# Altium schematic symbol library STL.SchLib: 124 symbols (part 4 of 4)
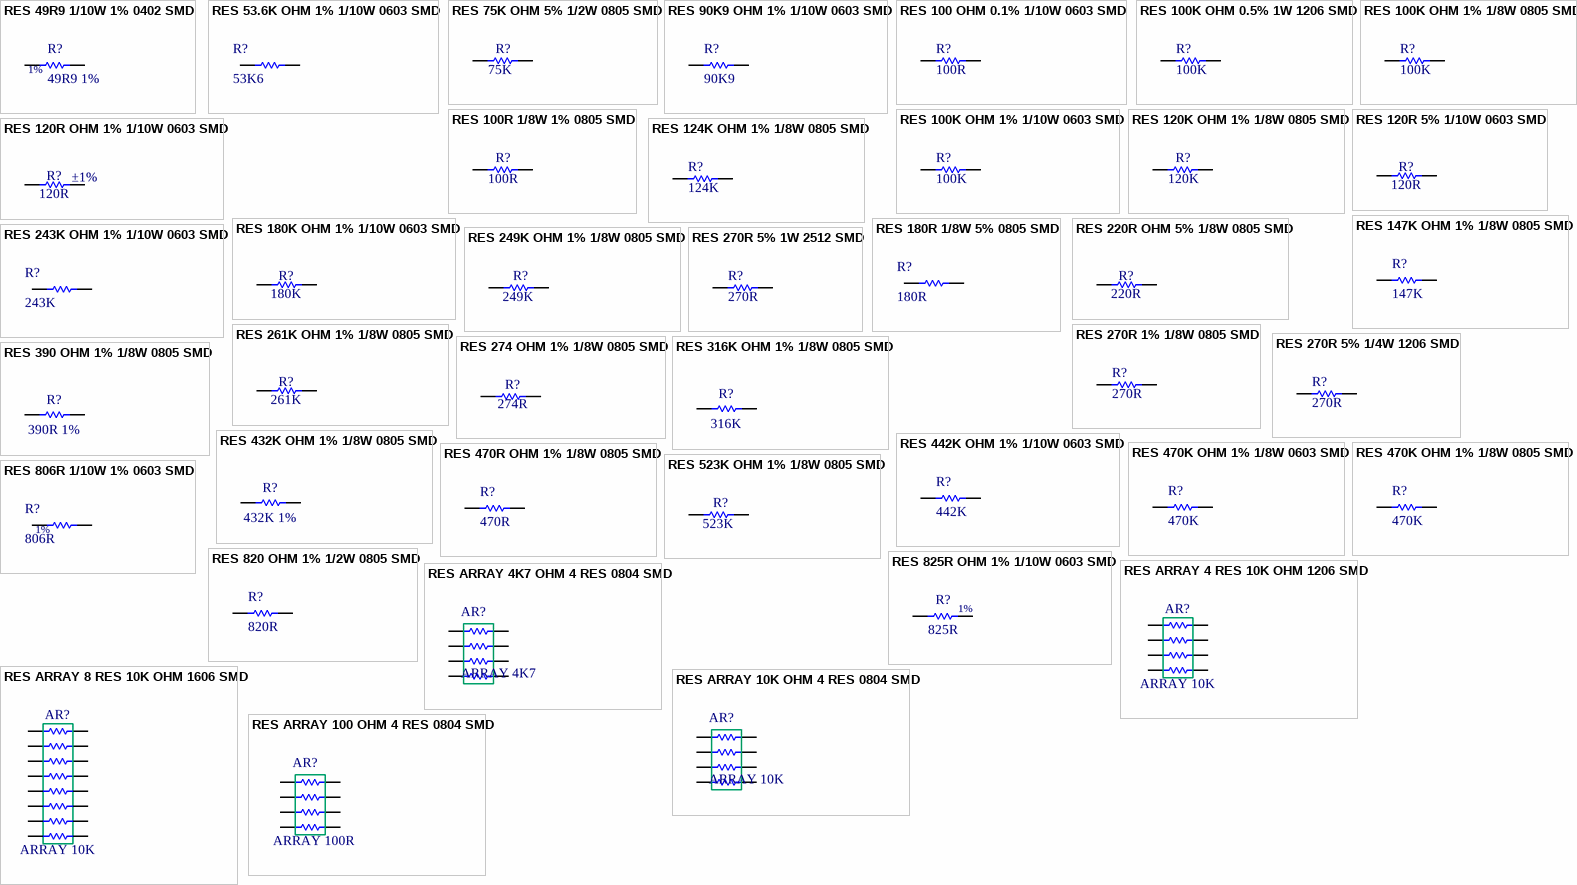
[diagram p6: symbols RES 49R9 1/10W 1% 0402 SMD to RES ARRAY 100 OHM 4 RES 0804 SMD]

## RES 316K OHM 1% 1/8W 0805 SMD
designator R?, comment 316K
RES SMD 316K OHM 1% 1/8W 0805; Manufacturer: Panasonic Electronic Components; Manufacturer Part Number: ERJ-6ENF3163V; Power (Watts): 0.125W, 1/8W; Temperature Coefficient: ±100ppm/°C; Supplier 1: Digi-Key; RoHS: RoHS Compliant; Category: Resistors; Stock 1: 97409; Pricing 1: 1=0.1, 50=0.022, 100=0.0162, 250=0.01236, 500=0.0099, 1000=0.00729 (USD); Packaging: Cut Tape (CT); Resistance (Ohms): 316k; Tolerance: ±1%; Composition: Thick Film; Features: Automotive AEC-Q200; Operating Temperature: -55°C ~ 155°C; Package / Case: 0805 (2012 Metric); Supplier Device Package: 0805; Size / Dimension: 0.079" L x 0.049" W (2.00mm x 1.25mm); Height: 0.028" (0.70mm); Number of Terminations: 2; ComponentLink1URL: http://industrial.panasonic.com/www-cgi/jvcr13pz.cgi?E+PZ+3+AOA0002+ERJ6ENF3163V+7+WW; ComponentLink1Description: http://industrial.panasonic.com/www-cgi/jvcr13pz.cgi?E+PZ+3+AOA0002+ERJ6ENF3163V+7+WW; Supplier Part Number 1: P316KCCT-ND
footprint CR2012-0805 (Chip Capacitor)
pins: 1, 2

## RES 390 OHM 1% 1/8W 0805 SMD
designator R?, comment 390R 1%
RES SMD 390 OHM 1% 1/8W 0805; Manufacturer: Uniroyal; Manufacturer Part Number: 0805W8F3900T5E; Resistance (Ohms): 390; Power (Watts): 0.125W, 1/8W; RoHS: RoHS Compliant; Category: Resistors; Packaging: Cut Tape (CT); Part Status: Active; Tolerance: ±1%; Package / Case: 0805 (2012 Metric); Supplier Device Package: 0805; Number of Terminations: 2; ComponentLink1URL: http://industrial.panasonic.com/www-cgi/jvcr13pz.cgi?E+PZ+3+AOA0002+ERJ6ENF3652V+7+WW; ComponentLink1Description: http://industrial.panasonic.com/www-cgi/jvcr13pz.cgi?E+PZ+3+AOA0002+ERJ6ENF3652V+7+WW; Supplier 1: LCSC; Supplier Part Number 1: C17655
footprint CR2012-0805 (Chip Capacitor)
pins: 1, 2

## RES 432K OHM 1% 1/8W 0805 SMD
designator R?, comment 432K 1%
RES SMD 432K OHM 1% 1/8W 0805; Manufacturer: Panasonic Electronic Components; Manufacturer Part Number: ERJ-6ENF4323V; Power (Watts): 0.125W, 1/8W; Temperature Coefficient: ±100ppm/°C; Supplier 1: Digi-Key; RoHS: RoHS Compliant; Category: Resistors; Stock 1: 41728; Pricing 1: 1=0.1, 50=0.022, 100=0.0162, 250=0.01236, 500=0.0099, 1000=0.00729 (USD); Packaging: Cut Tape (CT); Part Status: Active; Resistance (Ohms): 432k; Tolerance: ±1%; Composition: Thick Film; Features: Automotive AEC-Q200; Operating Temperature: -55°C ~ 155°C; Package / Case: 0805 (2012 Metric); Supplier Device Package: 0805; Size / Dimension: 0.079" L x 0.049" W (2.00mm x 1.25mm); Height: 0.028" (0.70mm); Number of Terminations: 2; ComponentLink1URL: http://industrial.panasonic.com/www-cgi/jvcr13pz.cgi?E+PZ+3+AOA0002+ERJ6ENF4323V+7+WW; ComponentLink1Description: http://industrial.panasonic.com/www-cgi/jvcr13pz.cgi?E+PZ+3+AOA0002+ERJ6ENF4323V+7+WW; Supplier Part Number 1: P432KCCT-ND
footprint CR2012-0805 (Chip Capacitor)
pins: 1, 2

## RES 442K OHM 1% 1/10W 0603 SMD
designator R?, comment 442K
RES SMD 442K OHM 1% 1/10W 0603; Manufacturer: Yageo; Manufacturer Part Number: RC0603FR-07442KL; Power (Watts): 0.1W, 1/10W; Temperature Coefficient: ±100ppm/°C; Supplier 1: Digi-Key; RoHS: RoHS Compliant; Category: Resistors; Stock 1: 27435; Pricing 1: 1=0.1, 10=0.014, 25=0.01, 100=0.0057, 250=0.00436, 500=0.00348, 1000=0.00257, 2500=0.00223 (USD); Packaging: Cut Tape (CT); Resistance (Ohms): 442k; Tolerance: ±1%; Composition: Thick Film; Features: Moisture Resistant; Operating Temperature: -55°C ~ 155°C; Package / Case: 0603 (1608 Metric); Supplier Device Package: 0603; Size / Dimension: 0.063" L x 0.031" W (1.60mm x 0.80mm); Height: 0.022" (0.55mm); Number of Terminations: 2; ComponentLink1URL: http://www.yageo.com/documents/recent/PYu-RC_Group_51_RoHS_L_04.pdf; ComponentLink1Description: http://www.yageo.com/documents/recent/PYu-RC_Group_51_RoHS_L_04.pdf; Supplier Part Number 1: 311-442KHRCT-ND
footprint CR1608-0603 (Chip Resistor; Body 1.6 x 0.8 mm (LxW typ))
pins: 1, 2

## RES 470K OHM 1% 1/8W 0603 SMD
designator R?, comment 470K
RES, THICK FILM, 470KOHM, 0.1W, 0603; Manufacturer: Panasonic; Manufacturer Part Number: ERA-6AEB474V; Resistance: 470kR; Power Rating: 125mW; Tolerance: 0.1%; Voltage Rating: 100V; Temperature Coefficient: 25ppm/°C; ComponentLink1URL: http://www.yageo.com/documents/recent/PYu-RC_Group_51_RoHS_L_7.pdf; ComponentLink1Description: http://www.yageo.com/documents/recent/PYu-RC_Group_51_RoHS_L_7.pdf; ComponentLink2URL: https://datasheet.ciiva.com/9189/aoa0000ce26-9189398.pdf?src-supplier=Avnet; ComponentLink2Description: https://datasheet.ciiva.com/9189/aoa0000ce26-9189398.pdf?src-supplier=Avnet; RoHS: Yes; Category: Chip SMD Resistors; Stock 1: 32083; Pricing 1: 1=0,36000, 10=0,30200, 100=0,11820, 1000=0,04948, 2500=0,04536 (USD); Mount: Surface Mount; Case/Package: 0805; Number of Pins: 2; Case Code (Metric): 2012; Case Code (Imperial): 0805; Contact Plating: Tin; Min Operating Temperature: -55°C; Max Operating Temperature: 155°C; Packaging: Tape and Reel; Package Quantity: 1; Composition: Thin Film,Metal Film; Number of Terminations: 2; Termination: SMD/SMT; Military Standard: Not; Max Power Dissipation: 125mW; Voltage Rating (DC): 100V; Features: Automotive AEC-Q200; Length: 2mm; Height: 0.5mm; Width: 1.25mm; Depth: 1.25mm; Radiation Hardening: No; REACH SVHC: No SVHC; Lead Free: Lead Free; ComponentLink3URL: https://datasheet.ciiva.com/11808/0900766b80eb1d8c-11808090.pdf?src-supplier=RSComponents; ComponentLink3Description: https://datasheet.ciiva.com/11808/0900766b80eb1d8c-11808090.pdf?src-supplier=RSComponents; ComponentLink4URL: https://datasheet.ciiva.com/26335/458319-da-01-en-widerstand-0805-era-26335741.pdf?src-supplier=Conrad; ComponentLink4Description: https://datasheet.ciiva.com/26335/458319-da-01-en-widerstand-0805-era-26335741.pdf?src-supplier=Conrad; ComponentLink5URL: https://datasheet.ciiva.com/5875/485442-5875541.pdf?src-supplier=Farnell; ComponentLink5Description: https://datasheet.ciiva.com/5875/485442-5875541.pdf?src-supplier=Farnell; ComponentLink6URL: https://datasheet.ciiva.com/46444/485442-46444805.pdf?src-supplier=Element14; ComponentLink6Description: https://datasheet.ciiva.com/46444/485442-46444805.pdf?src-supplier=Element14; ComponentLink7URL: https://datasheet.ciiva.com/30177/54aoa0000ce26-30177306.pdf?src-supplier=Onlinecomponents.com; ComponentLink7Description: https://datasheet.ciiva.com/30177/54aoa0000ce26-30177306.pdf?src-supplier=Onlinecomponents.com; ComponentLink8URL: https://datasheet.ciiva.com/17205/aoa0000ce26-17205647.pdf?src-supplier=Avnet+Europe; ComponentLink8Description: https://datasheet.ciiva.com/17205/aoa0000ce26-17205647.pdf?src-supplier=Avnet+Europe; ComponentLink9URL: https://datasheet.ciiva.com/28676/485442-28676607.pdf?src-supplier=Element14; ComponentLink9Description: https://datasheet.ciiva.com/28676/485442-28676607.pdf?src-supplier=Element14; Stock 2: 147809; Pricing 2: 1=0,10000, 10=0,04900, 100=0,01980, 1000=0,00890, 2500=0,00773 (USD); ComponentLink10URL: https://datasheet.ciiva.com/7836/aoa0000ce2-7836505.pdf?src-supplier=Element14; ComponentLink10Description: https://datasheet.ciiva.com/7836/aoa0000ce2-7836505.pdf?src-supplier=Element14; ComponentLink11URL: https://datasheet.ciiva.com/17205/aoa0000ce2-17205660.pdf?src-supplier=Avnet+Europe; ComponentLink11Description: https://datasheet.ciiva.com/17205/aoa0000ce2-17205660.pdf?src-supplier=Avnet+Europe; ComponentLink12URL: https://datasheet.ciiva.com/9181/aoa0000ce2-9181725.pdf?src-supplier=Avnet; ComponentLink12Description: https://datasheet.ciiva.com/9181/aoa0000ce2-9181725.pdf?src-supplier=Avnet; ComponentLink13URL: https://datasheet.ciiva.com/16759/70260748-16759934.pdf?src-supplier=Allied+Electronics; ComponentLink13Description: https://datasheet.ciiva.com/16759/70260748-16759934.pdf?src-supplier=Allied+Electronics; ComponentLink14URL: https://datasheet.ciiva.com/9117/aoa0000ce2-9117093.pdf?src-supplier=Avnet; ComponentLink14Description: https://datasheet.ciiva.com/9117/aoa0000ce2-9117093.pdf?src-supplier=Avnet; ComponentLink15URL: https://datasheet.ciiva.com/16514/aoa0000ce2-16514074.pdf?src-supplier=Avnet+Asia; ComponentLink15Description: https://datasheet.ciiva.com/16514/aoa0000ce2-16514074.pdf?src-supplier=Avnet+Asia; ComponentLink16URL: https://datasheet.ciiva.com/16786/70260748-16786907.pdf?src-supplier=Allied+Electronics; ComponentLink16Description: https://datasheet.ciiva.com/16786/70260748-16786907.pdf?src-supplier=Allied+Electronics; ComponentLink17URL: https://datasheet.ciiva.com/22687/1678782-22687437.pdf?src-supplier=Element14; ComponentLink17Description: https://datasheet.ciiva.com/22687/1678782-22687437.pdf?src-supplier=Element14; ComponentLink18URL: https://datasheet.ciiva.com/46444/1678782-46444813.pdf?src-supplier=Element14; ComponentLink18Description: https://datasheet.ciiva.com/46444/1678782-46444813.pdf?src-supplier=Element14; ComponentLink19URL: https://datasheet.ciiva.com/46444/1678782-46444814.pdf?src-supplier=Element14; ComponentLink19Description: https://datasheet.ciiva.com/46444/1678782-46444814.pdf?src-supplier=Element14; Supplier 1: Digi-Key; Supplier Part Number 1: P470KHCT-ND
footprint CC1608-0603 (Chip Capacitor; Body 1.6 x 0.8 mm (LxW typ))
pins: 1, 2

## RES 470K OHM 1% 1/8W 0805 SMD
designator R?, comment 470K
RES SMD 470K OHM 1%, 0.1% 1/8W 0805; Manufacturer: Panasonic; Manufacturer Part Number: ERA-6AEB474V; Resistance: 470kR; Power Rating: 125mW; Voltage Rating: 100V; Temperature Coefficient: 25ppm/°C; ComponentLink1URL: http://www.yageo.com/documents/recent/PYu-RC_Group_51_RoHS_L_7.pdf; ComponentLink1Description: http://www.yageo.com/documents/recent/PYu-RC_Group_51_RoHS_L_7.pdf; ComponentLink2URL: https://datasheet.ciiva.com/9189/aoa0000ce26-9189398.pdf?src-supplier=Avnet; ComponentLink2Description: https://datasheet.ciiva.com/9189/aoa0000ce26-9189398.pdf?src-supplier=Avnet; RoHS: Yes; Category: Chip SMD Resistors; Stock 1: 32083; Pricing 1: 1=0,36000, 10=0,30200, 100=0,11820, 1000=0,04948, 2500=0,04536 (USD); Mount: Surface Mount; Case/Package: 0805; Number of Pins: 2; Case Code (Metric): 2012; Case Code (Imperial): 0805; Contact Plating: Tin; Min Operating Temperature: -55°C; Max Operating Temperature: 155°C; Tolerance: 0.1%; Packaging: Tape and Reel; Package Quantity: 1; Composition: Thin Film,Metal Film; Number of Terminations: 2; Termination: SMD/SMT; Military Standard: Not; Max Power Dissipation: 125mW; Voltage Rating (DC): 100V; Features: Automotive AEC-Q200; Length: 2mm; Height: 0.5mm; Width: 1.25mm; Depth: 1.25mm; Radiation Hardening: No; REACH SVHC: No SVHC; Lead Free: Lead Free; ComponentLink3URL: https://datasheet.ciiva.com/11808/0900766b80eb1d8c-11808090.pdf?src-supplier=RSComponents; ComponentLink3Description: https://datasheet.ciiva.com/11808/0900766b80eb1d8c-11808090.pdf?src-supplier=RSComponents; ComponentLink4URL: https://datasheet.ciiva.com/26335/458319-da-01-en-widerstand-0805-era-26335741.pdf?src-supplier=Conrad; ComponentLink4Description: https://datasheet.ciiva.com/26335/458319-da-01-en-widerstand-0805-era-26335741.pdf?src-supplier=Conrad; ComponentLink5URL: https://datasheet.ciiva.com/5875/485442-5875541.pdf?src-supplier=Farnell; ComponentLink5Description: https://datasheet.ciiva.com/5875/485442-5875541.pdf?src-supplier=Farnell; ComponentLink6URL: https://datasheet.ciiva.com/46444/485442-46444805.pdf?src-supplier=Element14; ComponentLink6Description: https://datasheet.ciiva.com/46444/485442-46444805.pdf?src-supplier=Element14; ComponentLink7URL: https://datasheet.ciiva.com/30177/54aoa0000ce26-30177306.pdf?src-supplier=Onlinecomponents.com; ComponentLink7Description: https://datasheet.ciiva.com/30177/54aoa0000ce26-30177306.pdf?src-supplier=Onlinecomponents.com; ComponentLink8URL: https://datasheet.ciiva.com/17205/aoa0000ce26-17205647.pdf?src-supplier=Avnet+Europe; ComponentLink8Description: https://datasheet.ciiva.com/17205/aoa0000ce26-17205647.pdf?src-supplier=Avnet+Europe; ComponentLink9URL: https://datasheet.ciiva.com/28676/485442-28676607.pdf?src-supplier=Element14; ComponentLink9Description: https://datasheet.ciiva.com/28676/485442-28676607.pdf?src-supplier=Element14; Supplier 1: Digi-Key; Supplier 2: LCSC; Supplier Part Number 2: C844627; Supplier Part Number 1: P470KDACT-ND
footprint CR2012-0805 (Chip Capacitor)
pins: 1, 2

## RES 470R OHM 1% 1/8W 0805 SMD
designator R?, comment 470R
RES SMD 470 OHM 1% 1/8W 0805; Manufacturer: Uniroyal; Manufacturer Part Number: 0805W8F4700T5E; Temperature Coefficient: 200ppm/°C; Voltage Rating (DC): 150V; Power Rating: 500mW; ComponentLink1URL: http://www.yageo.com/documents/recent/PYu-RC_Group_51_RoHS_L_7.pdf; ComponentLink1Description: http://www.yageo.com/documents/recent/PYu-RC_Group_51_RoHS_L_7.pdf; ComponentLink2URL: https://datasheet.ciiva.com/48531/aoa0000ce4-48531226.pdf?src-supplier=Avnet; ComponentLink2Description: https://datasheet.ciiva.com/48531/aoa0000ce4-48531226.pdf?src-supplier=Avnet; Supplier 1: Digi-Key; RoHS: Yes; Category: Chip SMD Resistors; Stock 1: 11464; Pricing 1: 1=0,54000, 10=0,41200, 100=0,17310, 1000=0,09552, 2500=0,08955 (USD); Case/Package: 0805; Case Code (Metric): 2012; Case Code (Imperial): 0805; Contact Plating: Tin; Min Operating Temperature: -55°C; Max Operating Temperature: 155°C; Tolerance: 1%; Resistance: 470R; Packaging: Cut Tape; Composition: Thick Film; Voltage Rating: 150V; Termination: Flat; Number of Terminations: 2; Max Power Dissipation: 500mW; Features: Automotive AEC-Q200; Length: 0.079inch; Height: 0.03inch; Width: 0.049inch; Depth: 1.25mm; REACH SVHC: No SVHC; ComponentLink3URL: https://datasheet.ciiva.com/7830/1790600-7830869.pdf?src-supplier=Element14; ComponentLink3Description: https://datasheet.ciiva.com/7830/1790600-7830869.pdf?src-supplier=Element14; ComponentLink4URL: https://datasheet.ciiva.com/48531/aoa0000ce4-48531222.pdf?src-supplier=Avnet; ComponentLink4Description: https://datasheet.ciiva.com/48531/aoa0000ce4-48531222.pdf?src-supplier=Avnet; ComponentLink5URL: https://datasheet.ciiva.com/48536/erjp-series-eng-tds-48536302.pdf?src-supplier=Distrelec; ComponentLink5Description: https://datasheet.ciiva.com/48536/erjp-series-eng-tds-48536302.pdf?src-supplier=Distrelec; ComponentLink6URL: https://datasheet.ciiva.com/6138/1790600-6138383.pdf?src-supplier=Farnell; ComponentLink6Description: https://datasheet.ciiva.com/6138/1790600-6138383.pdf?src-supplier=Farnell; Supplier Part Number 1: P16881CT-ND; Supplier 2: LCSC; Supplier Part Number 2: C17710
footprint CR1608-0603 (Chip Resistor; Body 1.6 x 0.8 mm (LxW typ))
pins: 1, 2

## RES 523K OHM 1% 1/8W 0805 SMD
designator R?, comment 523K
RES SMD 523K OHM 1% 1/8W 0805; Manufacturer: Yageo; Manufacturer Part Number: RC0805FR-07523KL; Voltage Rating: 150V; Resistance: 523kR; Power Rating: 125mW; Temperature Coefficient: 100ppm/°C; Supplier 1: Digi-Key; RoHS: Yes; Category: Chip SMD Resistors; Stock 1: 70000; Pricing 1: 1=0,10000, 10=0,04000, 100=0,01630, 1000=0,00731, 2500=0,00635 (USD); Case/Package: 0805; Case Code (Imperial): 0805; Case Code (Metric): 2012; Contact Plating: Tin,Matte; Min Operating Temperature: -55°C; Max Operating Temperature: 155°C; Composition: Thick Film; Tolerance: 1%; Packaging: Tape and Reel; Termination: SMD/SMT; Military Standard: Not; Voltage Rating (DC): 150V; Length: 2mm; Height: 0.5mm; Width: 1.25mm; Depth: 1.25mm; Radiation Hardening: No; Lead Free: Lead Free; ComponentLink1URL: https://datasheet.ciiva.com/17419/rc0805-17419919.pdf?src-supplier=Future+Electronics; ComponentLink1Description: https://datasheet.ciiva.com/17419/rc0805-17419919.pdf?src-supplier=Future+Electronics; Supplier Part Number 1: 311-523KCRCT-ND
footprint CR2012-0805 (Chip Capacitor)
pins: 1, 2

## RES 806R 1/10W 1% 0603 SMD
designator R?, comment 806R
RES SMD 806 OHM 1% 1/10W 0603; Manufacturer: Yageo; Part#: RC0603FR-07806RL; eVendor: Digi-Key; eVendorPrice: 0,10; eVendor#: 311-806HRCT-ND; MSRP: 0,00223; Datasheet: http://www.yageo.com.tw/exep/pages/download/literatures/PYu-R_INT-thick_7.pdf; MOQ: 2500
footprint CR1608-0603 (Chip Resistor; Body 1.6 x 0.8 mm (LxW typ))
pins: 1, 2
text: 1%

## RES 820 OHM 1% 1/2W 0805 SMD
designator R?, comment 820R
RES SMD 820 OHM 1% 1/2W 0805; Manufacturer: Panasonic; Manufacturer Part Number: ERJP6WF8200V; Power Rating: 500mW; Voltage Rating: 150V; Temperature Coefficient: 200ppm/°C; ComponentLink1URL: http://www.yageo.com/documents/recent/PYu-RC_Group_51_RoHS_L_7.pdf; ComponentLink1Description: http://www.yageo.com/documents/recent/PYu-RC_Group_51_RoHS_L_7.pdf; ComponentLink2URL: https://datasheet.ciiva.com/48531/aoa0000ce4-48531226.pdf?src-supplier=Avnet; ComponentLink2Description: https://datasheet.ciiva.com/48531/aoa0000ce4-48531226.pdf?src-supplier=Avnet; ComponentLink3URL: https://datasheet.ciiva.com/7830/1790600-7830869.pdf?src-supplier=Element14; ComponentLink3Description: https://datasheet.ciiva.com/7830/1790600-7830869.pdf?src-supplier=Element14; ComponentLink4URL: https://datasheet.ciiva.com/48531/aoa0000ce4-48531222.pdf?src-supplier=Avnet; ComponentLink4Description: https://datasheet.ciiva.com/48531/aoa0000ce4-48531222.pdf?src-supplier=Avnet; ComponentLink5URL: https://datasheet.ciiva.com/48536/erjp-series-eng-tds-48536302.pdf?src-supplier=Distrelec; ComponentLink5Description: https://datasheet.ciiva.com/48536/erjp-series-eng-tds-48536302.pdf?src-supplier=Distrelec; ComponentLink6URL: https://datasheet.ciiva.com/6138/1790600-6138383.pdf?src-supplier=Farnell; ComponentLink6Description: https://datasheet.ciiva.com/6138/1790600-6138383.pdf?src-supplier=Farnell; Supplier 1: Arrow; RoHS: Yes; Category: Chip SMD Resistors; Stock 1: 2072; Pricing 1: 1=0,51300, 10=0,27930, 25=0,27650, 100=0,14350, 250=0,14190, 500=0,14060, 1000=0,08550 (USD); Case/Package: 0805; Case Code (Metric): 2012; Case Code (Imperial): 0805; Contact Plating: Tin; Min Operating Temperature: -55°C; Max Operating Temperature: 155°C; Tolerance: 1%; Composition: Thick Film; Resistance: 820R; Packaging: Cut Tape; Voltage Rating (DC): 150V; Termination: Flat; Number of Terminations: 2; Max Power Dissipation: 500mW; Features: Automotive AEC-Q200; Length: 0.079inch; Height: 0.03inch; Width: 0.049inch; Depth: 1.25mm; REACH SVHC: No SVHC; ComponentLink7URL: https://datasheet.ciiva.com/48531/aoa0000ce4-48531125.pdf?src-supplier=Avnet; ComponentLink7Description: https://datasheet.ciiva.com/48531/aoa0000ce4-48531125.pdf?src-supplier=Avnet; ComponentLink8URL: https://datasheet.ciiva.com/6137/1790600-6137853.pdf?src-supplier=Farnell; ComponentLink8Description: https://datasheet.ciiva.com/6137/1790600-6137853.pdf?src-supplier=Farnell; Supplier Part Number 1: ERJP6WF8200V
footprint CR1608-0603 (Chip Resistor; Body 1.6 x 0.8 mm (LxW typ))
pins: 1, 2

## RES 825R OHM 1% 1/10W 0603 SMD
designator R?, comment 825R
RES SMD 825 OHM 1% 1/10W 0603; Manufacturer: Yageo; Part#: RC0603FR-07825RL; eVendor: Digi-Key; eVendorPrice: 0,10; eVendor#: 311-825HRCT-ND; MSRP: 0,00223; Datasheet: http://www.yageo.com/NewPortal/yageodocoutput?fileName=/pdf/R-Chip/PYu-RC_Group_51_RoHS_L_3.pdf; MOQ: 2500
footprint CR1608-0603 (Chip Resistor; Body 1.6 x 0.8 mm (LxW typ))
pins: 1, 2
text: 1%

## RES ARRAY 4 RES 10K OHM 1206 SMD
designator AR?, comment ARRAY 10K
RES ARRAY 4 RES 10K OHM 1206; Manufacturer: Panasonic Electronic Components; Manufacturer Part Number: EXB-38V103JV; Circuit Type: Isolated; Tolerance: ±5%; Number of Resistors: 4; Power Per Element: 62.5mW; Temperature Coefficient: ±200ppm/°C; Supplier 1: Digi-Key; RoHS: RoHS Compliant; Category: Resistors; Stock 1: 318916; Pricing 1: 1=0.1, 10=0.051, 25=0.0368, 50=0.0282, 100=0.0208, 250=0.01584, 500=0.01268, 1000=0.00933 (USD); Packaging: Cut Tape (CT); Part Status: Active; Resistance (Ohms): 10k; Number of Pins: 8; Operating Temperature: -55°C ~ 125°C; Applications: Automotive AEC-Q200; Mounting Type: Surface Mount; Package / Case: 1206 (3216 Metric), Convex, Long Side Terminals; Supplier Device Package: 1206; Size / Dimension: 0.126" L x 0.063" W (3.20mm x 1.60mm); Height - Seated (Max): 0.024" (0.60mm); ComponentLink1URL: https://industrial.panasonic.com/cdbs/www-data/pdf/AOC0000/AOC0000CE4.pdf; ComponentLink1Description: https://industrial.panasonic.com/cdbs/www-data/pdf/AOC0000/AOC0000CE4.pdf; Supplier Part Number 1: Y9103CT-ND
footprint Array_4Res-1206
pins: 1, 2, 3, 4, 5, 6, 7, 8

## RES ARRAY 4K7 OHM 4 RES 0804 SMD
designator AR?, comment ARRAY 4K7
RES ARRAY 4.7K OHM 4 RES 0804; Part#: YC124-JR-074K7L; Manufacturer: Yageo; eVendor: Digi-Key; eVendorPrice: 0,10; MSRP: 0,00999; eVendor#: YC124J-4.7KCT-ND; Observação: --; MOQ: 5000; Datasheet: http://www.yageo.com/documents/recent/PYu-YC_TC124_51_RoHS_L_(3).pdf
footprint Array_4Res-0804
pins: 1, 2, 3, 4, 5, 6, 7, 8

## RES ARRAY 8 RES 10K OHM 1606 SMD
designator AR?, comment ARRAY 10K
RES ARRAY 8 RES 10K OHM 1606; Manufacturer: Rohm Semiconductor; Manufacturer Part Number: MNR18ERAPJ103; Circuit Type: Isolated; Tolerance: ±5%; Number of Resistors: 8; Power Per Element: 62.5mW; Temperature Coefficient: ±250ppm/°C; Supplier 1: Digi-Key; RoHS: RoHS Compliant; Category: Resistors; Stock 1: 10849; Pricing 1: 1=0.11, 10=0.1, 25=0.0692, 50=0.054, 100=0.0385, 250=0.03004, 500=0.02388, 1000=0.01694 (USD); Packaging: Cut Tape (CT); Part Status: Active; Resistance (Ohms): 10k; Number of Pins: 16; Operating Temperature: -55°C ~ 125°C; Applications: -; Mounting Type: Surface Mount; Package / Case: 1606, Convex, Long Side Terminals; Supplier Device Package: -; Size / Dimension: 0.157" L x 0.063" W (4.00mm x 1.60mm); Height - Seated (Max): 0.020" (0.50mm); ComponentLink1URL: http://rohmfs.rohm.com/en/products/databook/datasheet/passive/resistor/chip_resistor_network/mnr_g.pdf; ComponentLink1Description: http://rohmfs.rohm.com/en/products/databook/datasheet/passive/resistor/chip_resistor_network/mnr_g.pdf; Supplier Part Number 1: RHM1621CT-ND
footprint Array 8Res 1606
pins: 1, 2, 3, 4, 5, 6, 7, 8, 9, 10, 11, 12, 13, 14, 15, 16

## RES ARRAY 10K OHM 4 RES 0804 SMD
designator AR?, comment ARRAY 10K
RES ARRAY 10K OHM 4 RES 0804; Part#: YC124-JR-0710KL; Manufacturer: Yageo; eVendor: Digi-Key; eVendorPrice: 0,10; MSRP: 0,00999; eVendor#: YC124J-10KCT-ND; Observação: --; MOQ: 5000; Datasheet: http://www.yageo.com/documents/recent/PYu-YC_TC124_51_RoHS_L_(3).pdf
footprint Array_4Res-0804
pins: 1, 2, 3, 4, 5, 6, 7, 8

## RES ARRAY 100 OHM 4 RES 0804 SMD
designator AR?, comment ARRAY 100R
RES ARRAY 100 OHM 4 RES 0804; Part#: YC124-FR-07100RL; Manufacturer: Yageo; eVendor: LCSC; eVendorPrice: 0,0106; Circuit Type: Isolated; Number of Circuits: 4; Number of Terminals/Pins: 8; Power Per Element: 62.5mW; Temperature Coefficient: 200ppm/°C; Tolerance: 1%; Observação: --; MOQ: 4600; eVendor#: YC124-FR-07100RL; Width: 0.039inch; Case/Package: 0804; Category: Resistor Arrays; Depth: 1mm; Height: 0.022inch; Lead Free: Lead Free; Length: 0.079inch; Manufacturer Part Number: YC124-FR-07100RL; Max Operating Temperature: 155°C; Military Standard: Not; Min Operating Temperature: -55°C; Mount: Surface Mount; Number of Pins: 8; Number of Resistors: 4; Packaging: Tape and Reel; Resistance: 100R; RoHS Compliant: Yes; Terminal Pitch: 0.5mm; Termination: Convex; Supplier 1: LCSC; Supplier Part Number 1: C695181
footprint Array_4Res-0804
pins: 1, 2, 3, 4, 5, 6, 7, 8

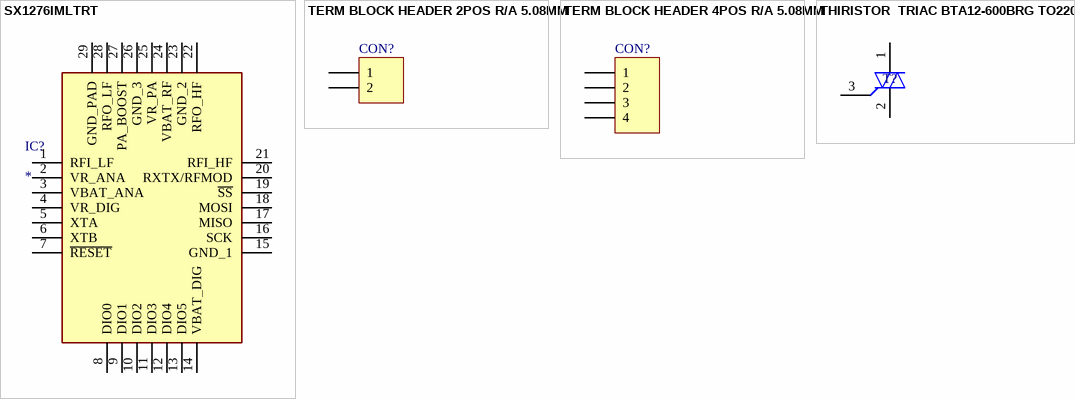
[diagram p3: symbols SX1276IMLTRT to THIRISTOR  TRIAC BTA12-600BRG TO220]

## SX1276IMLTRT
designator IC?
Integrated Circuit; Manufacturer_Name: SEMTECH; Manufacturer_Part_Number: SX1276IMLTRT; Datasheet Link: https://componentsearchengine.com/Datasheets/1/SX1276IMLTRT.pdf; Height: 1mm; Mouser Part Number: 947-SX1276IMLTRT; Mouser Price/Stock: https://www.mouser.co.uk/ProductDetail/Semtech/SX1276IMLTRT/?qs=rBWM4%252BvDhIceYQoeMKd%2FQQ%3D%3D; Arrow Part Number: SX1276IMLTRT; Arrow Price/Stock: https://www.arrow.com/en/products/sx1276imltrt/semtech
footprint QFN65P600X600X100-29N
pins: 1 RFI_LF, 2 VR_ANA, 3 VBAT_ANA, 4 VR_DIG, 5 XTA, 6 XTB, 7 ~{RESET}, 8 DIO0, 9 DIO1, 10 DIO2, 11 DIO3, 12 DIO4, 13 DIO5, 14 VBAT_DIG, 15 GND_1, 16 SCK, 17 MISO, 18 MOSI, 19 ~{SS}, 20 RXTX/RFMOD, 21 RFI_HF, 22 RFO_HF, 23 GND_2, 24 VBAT_RF, 25 VR_PA, 26 GND_3, 27 PA_BOOST, 28 RFO_LF, 29 GND_PAD

## TERM BLOCK HEADER 2POS R/A 5.08MM
designator CON?, comment TERM BLOCK 2POS  (value not drawn)
TERM BLOCK HDR 2POS R/A 5.08MM; Manufacturer: Phoenix Contact; Manufacturer Part Number: 1757242; Number of Positions: 2; Number of Levels: 1; Pitch: 0.200" (5.08mm); Header Orientation: 90°, Right Angle; Current - IEC: 12A; Voltage - IEC: 400V; Current - UL: 15A; Voltage - UL: 300V; Supplier 1: Digi-Key; RoHS: RoHS Compliant; Category: Connectors, Interconnects; Stock 1: 14081; Pricing 1: 1=0.59, 10=0.563, 50=0.5386, 100=0.5239, 250=0.4896, 500=0.45044, 1000=0.408, 2500=0.3888, 5000=0.3648 (USD); Packaging: Bulk; Part Status: Active; Type: Header, Male Pins, Shrouded (4 Side); Positions Per Level: 2; Plug Wire Entry: -; Termination Style: Solder; Mounting Type: Through Hole; Wire Gauge or Range - AWG: -; Wire Gauge or Range - mm²: -; Color: Green; Operating Temperature: -; Contact Mating Finish: Tin; Features: -; ComponentLink1URL: http://media.digikey.com/pdf/Data%20Sheets/Phoenix%20Contact%20PDFs/1757242.pdf; ComponentLink1Description: http://media.digikey.com/pdf/Data%20Sheets/Phoenix%20Contact%20PDFs/1757242.pdf; Supplier Part Number 1: 277-1106-ND; Supplier 2: LCSC; Supplier Part Number 2: C505824
footprint MSTBA 2G
pins: 1, 2

## TERM BLOCK HEADER 4POS R/A 5.08MM
designator CON?, comment TERM BLOCK 4POS  (value not drawn)
TERM BLOCK HDR 4POS R/A 5.08MM; ComponentLink1URL: http://media.digikey.com/pdf/Data%20Sheets/Phoenix%20Contact%20PDFs/1757242.pdf; ComponentLink1Description: http://media.digikey.com/pdf/Data%20Sheets/Phoenix%20Contact%20PDFs/1757242.pdf
footprint MSTBA 4G
pins: 1, 2, 3, 4

## THIRISTOR  TRIAC BTA12-600BRG TO220
designator T?, comment BTA12-600BRG  (value not drawn)
Thyristor TRIAC 600V 126A 3-Pin(3+Tab) TO-220AB Insulated Tube; Manufacturer_Name: STMicroelectronics; Hold Current: 50mA; RMS Current (Irms): 12A; Element Configuration: Single; Datasheet Link: http://www.st.com/web/en/resource/technical/document/datasheet/CD00002267.pdf; Height: 4.6mm; Manufacturer_Part_Number: BTA12-600BRG; Mouser Part Number: 511-BTA12-600B; Mouser Price/Stock: https://www.mouser.co.uk/ProductDetail/STMicroelectronics/BTA12-600BRG/?qs=giOUUUQrSzKZwChWaBwGpA%3D%3D; Arrow Part Number: BTA12-600BRG; Arrow Price/Stock: https://www.arrow.com/en/products/bta12-600brg/stmicroelectronics; Supplier 1: LCSC; Manufacturer: STMicroelectronics; Manufacturer Part Number: BTA12-600BRG; RoHS: Yes; Category: TRIACs; Stock 1: 4527; Pricing 1: 1=0,84210, 10=0,62980, 30=0,59210, 100=0,55430, 500=0,53550, 1000=0,52840, 1=0,81060, 10=0,60630, 30=0,57000, 100=0,53360, 500=0,51550, 1000=0,50870, 1=4,23000, 10=3,16360, 30=2,97440, 100=2,78450, 500=2,68990, 1000=2,65440, 1=4,06630, 10=3,04120, 30=2,85930, 100=2,67680, 500=2,58580, 1000=2,55170, 1=0,54680, 10=0,40900, 30=0,38450, 100=0,36000, 500=0,34770, 1000=0,34310, 1=0,46740, 10=0,34960, 30=0,32870, 100=0,30770, 500=0,29720, 1000=0,29330, 1=5,00460, 10=3,74300, 30=3,51910, 100=3,29450, 500=3,18250, 1000=3,14050, 1=70,73140, 10=52,90020, 30=49,73610, 100=46,56100, 500=44,97890, 1000=44,38570, 1=2,66790, 10=1,99530, 30=1,87600, 100=1,75620, 500=1,69650, 1000=1,67420, 1=48,70380, 10=36,42570, 30=34,24700, 100=32,06070, 500=30,97130, 1000=30,56280, 1=5,59110, 10=4,18160, 30=3,93150, 100=3,68050, 500=3,55550, 1000=3,50860, 1=0,86790, 10=0,64910, 30=0,61030, 100=0,57130, 500=0,55190, 1000=0,54460, 1=0,64380, 10=0,48150, 30=0,45270, 100=0,42380, 500=0,40940, 1000=0,40400 (AUD); Mount: Through Hole; Case/Package: TO-220AB; Number of Pins: 3; Weight: 0.211644oz; Contact Plating: Tin,Matte; Min Operating Temperature: -40°C; Max Operating Temperature: 125°C; Max Repetitive Reverse Voltage (Vrrm): 600V; Packaging: Rail/Tube; Package Quantity: 50; Current Rating: 12A; Voltage Rating (DC): 600V; Series: BTA12; Length: 10.4mm; Width: 4.6mm; Radiation Hardening: No; RoHS Compliant: Yes; REACH SVHC: No SVHC; Lead Free: Lead Free; ComponentLink1URL: https://datasheet.ciiva.com/14164/bta12-eng-tds-14164177.pdf?src-supplier=Distrelec; ComponentLink1Description: https://datasheet.ciiva.com/14164/bta12-eng-tds-14164177.pdf?src-supplier=Distrelec; ComponentLink2URL: https://datasheet.ciiva.com/15140/getdatasheetpartid-146661-15140538.pdf?src-supplier=Verical; ComponentLink2Description: https://datasheet.ciiva.com/15140/getdatasheetpartid-146661-15140538.pdf?src-supplier=Verical; ComponentLink3URL: https://datasheet.ciiva.com/3053/cd00002267-3053549.pdf?src-supplier=Avnet; ComponentLink3Description: https://datasheet.ciiva.com/3053/cd00002267-3053549.pdf?src-supplier=Avnet; ComponentLink4URL: https://datasheet.ciiva.com/4749/cd00002267-4749019.pdf?src-supplier=Mouser; ComponentLink4Description: https://datasheet.ciiva.com/4749/cd00002267-4749019.pdf?src-supplier=Mouser; ComponentLink5URL: https://datasheet.ciiva.com/1197/1717978-1197123.pdf?src-supplier=Element14; ComponentLink5Description: https://datasheet.ciiva.com/1197/1717978-1197123.pdf?src-supplier=Element14; ComponentLink6URL: https://datasheet.ciiva.com/25889/cd00002267-25889495.pdf?src-supplier=Avnet+Europe; ComponentLink6Description: https://datasheet.ciiva.com/25889/cd00002267-25889495.pdf?src-supplier=Avnet+Europe; Supplier Part Number 1: C10063
footprint TO255P460X1020X2005-3P
pins: 1 A1, 2 A2, 3 G